# EAGLE library part ATXMEGA128A3U-AU (library SumBot)
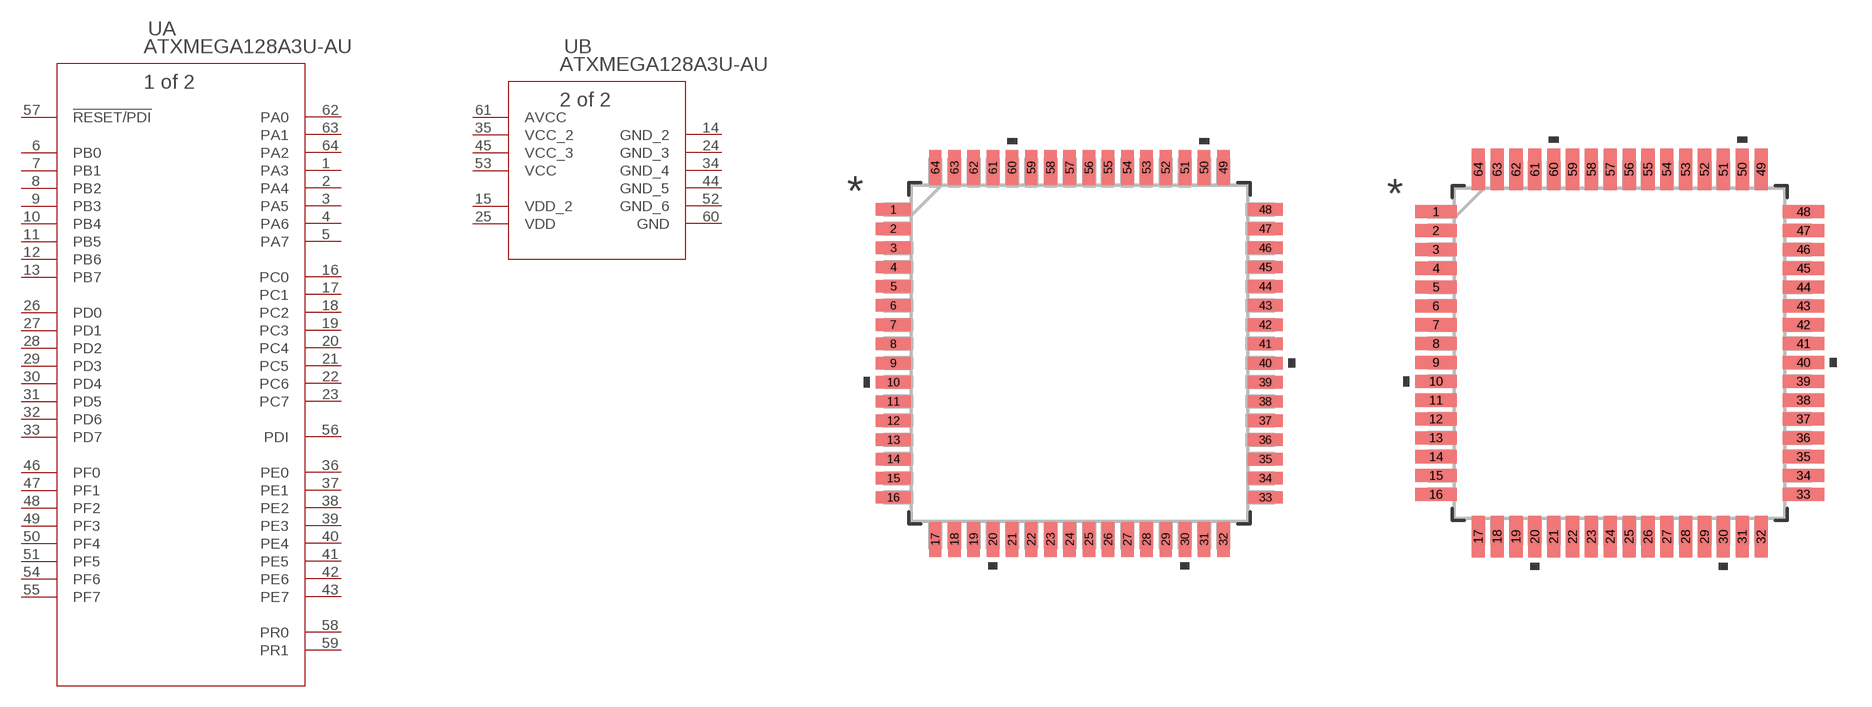
[diagram p0: symbol with the pads of 64A; footprints 64A, 64A-M]

Designator prefix U; gates A=ATXMEGA128A3U-AU B=ATXMEGA128A3U-AU_A

## ATXMEGA128A3U-AU (MANUFACTURER_PART_NUMBER: ATXMEGA128A3UAU; VENDOR: Atmel)  [64A]
1  A:PA3  pas
2  A:PA4  pas
3  A:PA5  pas
4  A:PA6  pas
5  A:PA7  pas
6  A:PB0  pas
7  A:PB1  pas
8  A:PB2  pas
9  A:PB3  pas
10  A:PB4  pas
11  A:PB5  pas
12  A:PB6  pas
13  A:PB7  pas
14  B:GND_2  pwr
15  B:VDD_2  pwr
16  A:PC0  pas
17  A:PC1  pas
18  A:PC2  pas
19  A:PC3  pas
20  A:PC4  pas
21  A:PC5  pas
22  A:PC6  pas
23  A:PC7  pas
24  B:GND_3  pwr
25  B:VDD  pwr
26  A:PD0  pas
27  A:PD1  pas
28  A:PD2  pas
29  A:PD3  pas
30  A:PD4  pas
31  A:PD5  pas
32  A:PD6  pas
33  A:PD7  pas
34  B:GND_4  pwr
35  B:VCC_2  pwr
36  A:PE0  pas
37  A:PE1  pas
38  A:PE2  pas
39  A:PE3  pas
40  A:PE4  pas
41  A:PE5  pas
42  A:PE6  pas
43  A:PE7  pas
44  B:GND_5  pwr
45  B:VCC_3  pwr
46  A:PF0  pas
47  A:PF1  pas
48  A:PF2  pas
49  A:PF3  pas
50  A:PF4  pas
51  A:PF5  pas
52  B:GND_6  pwr
53  B:VCC  pwr
54  A:PF6  pas
55  A:PF7  pas
56  A:PDI  pas
57  A:!RESET/PDI  pas
58  A:PR0  pas
59  A:PR1  pas
60  B:GND  pwr
61  B:AVCC  pwr
62  A:PA0  pas
63  A:PA1  pas
64  A:PA2  pas

## ATXMEGA128A3U-AU64A-M (MANUFACTURER_PART_NUMBER: ATXMEGA128A3UAU; VENDOR: Atmel)  [64A-M]
Pads as for 64A

## ATXMEGA128A3U-AU64A-L (MANUFACTURER_PART_NUMBER: ATXMEGA128A3UAU; VENDOR: Atmel)  [64A-L]
Pads as for 64A

## Footprint 64A (pad centres in mm)
smd 1.462 x 0.517: 1 -7.747,6; 2 -7.747,5.2; 3 -7.747,4.4; 4 -7.747,3.6; 5 -7.747,2.8; 6 -7.747,2; 7 -7.747,1.2; 8 -7.747,0.4; 9 -7.747,-0.4; 10 -7.747,-1.2; 11 -7.747,-2; 12 -7.747,-2.8; 13 -7.747,-3.6; 14 -7.747,-4.4; 15 -7.747,-5.2; 16 -7.747,-6; 33 7.747,-6; 34 7.747,-5.2; 35 7.747,-4.4; 36 7.747,-3.6; 37 7.747,-2.8; 38 7.747,-2; 39 7.747,-1.2; 40 7.747,-0.4; 41 7.747,0.4; 42 7.747,1.2; 43 7.747,2; 44 7.747,2.8; 45 7.747,3.6; 46 7.747,4.4; 47 7.747,5.2; 48 7.747,6
smd 0.517 x 1.462: 17 -6,-7.747; 18 -5.2,-7.747; 19 -4.4,-7.747; 20 -3.6,-7.747; 21 -2.8,-7.747; 22 -2,-7.747; 23 -1.2,-7.747; 24 -0.4,-7.747; 25 0.4,-7.747; 26 1.2,-7.747; 27 2,-7.747; 28 2.8,-7.747; 29 3.6,-7.747; 30 4.4,-7.747; 31 5.2,-7.747; 32 6,-7.747; 49 6,7.747; 50 5.2,7.747; 51 4.4,7.747; 52 3.6,7.747; 53 2.8,7.747; 54 2,7.747; 55 1.2,7.747; 56 0.4,7.747; 57 -0.4,7.747; 58 -1.2,7.747; 59 -2,7.747; 60 -2.8,7.747; 61 -3.6,7.747; 62 -4.4,7.747; 63 -5.2,7.747; 64 -6,7.747

## Footprint 64A-M (pad centres in mm)
smd 1.762 x 0.557: 1 -7.797,6; 2 -7.797,5.2; 3 -7.797,4.4; 4 -7.797,3.6; 5 -7.797,2.8; 6 -7.797,2; 7 -7.797,1.2; 8 -7.797,0.4; 9 -7.797,-0.4; 10 -7.797,-1.2; 11 -7.797,-2; 12 -7.797,-2.8; 13 -7.797,-3.6; 14 -7.797,-4.4; 15 -7.797,-5.2; 16 -7.797,-6; 33 7.797,-6; 34 7.797,-5.2; 35 7.797,-4.4; 36 7.797,-3.6; 37 7.797,-2.8; 38 7.797,-2; 39 7.797,-1.2; 40 7.797,-0.4; 41 7.797,0.4; 42 7.797,1.2; 43 7.797,2; 44 7.797,2.8; 45 7.797,3.6; 46 7.797,4.4; 47 7.797,5.2; 48 7.797,6
smd 0.557 x 1.762: 17 -6,-7.797; 18 -5.2,-7.797; 19 -4.4,-7.797; 20 -3.6,-7.797; 21 -2.8,-7.797; 22 -2,-7.797; 23 -1.2,-7.797; 24 -0.4,-7.797; 25 0.4,-7.797; 26 1.2,-7.797; 27 2,-7.797; 28 2.8,-7.797; 29 3.6,-7.797; 30 4.4,-7.797; 31 5.2,-7.797; 32 6,-7.797; 49 6,7.797; 50 5.2,7.797; 51 4.4,7.797; 52 3.6,7.797; 53 2.8,7.797; 54 2,7.797; 55 1.2,7.797; 56 0.4,7.797; 57 -0.4,7.797; 58 -1.2,7.797; 59 -2,7.797; 60 -2.8,7.797; 61 -3.6,7.797; 62 -4.4,7.797; 63 -5.2,7.797; 64 -6,7.797

## Footprint 64A-L (pad centres in mm)
smd 1.162 x 0.477: 1 -7.697,6; 2 -7.697,5.2; 3 -7.697,4.4; 4 -7.697,3.6; 5 -7.697,2.8; 6 -7.697,2; 7 -7.697,1.2; 8 -7.697,0.4; 9 -7.697,-0.4; 10 -7.697,-1.2; 11 -7.697,-2; 12 -7.697,-2.8; 13 -7.697,-3.6; 14 -7.697,-4.4; 15 -7.697,-5.2; 16 -7.697,-6; 33 7.697,-6; 34 7.697,-5.2; 35 7.697,-4.4; 36 7.697,-3.6; 37 7.697,-2.8; 38 7.697,-2; 39 7.697,-1.2; 40 7.697,-0.4; 41 7.697,0.4; 42 7.697,1.2; 43 7.697,2; 44 7.697,2.8; 45 7.697,3.6; 46 7.697,4.4; 47 7.697,5.2; 48 7.697,6
smd 0.477 x 1.162: 17 -6,-7.697; 18 -5.2,-7.697; 19 -4.4,-7.697; 20 -3.6,-7.697; 21 -2.8,-7.697; 22 -2,-7.697; 23 -1.2,-7.697; 24 -0.4,-7.697; 25 0.4,-7.697; 26 1.2,-7.697; 27 2,-7.697; 28 2.8,-7.697; 29 3.6,-7.697; 30 4.4,-7.697; 31 5.2,-7.697; 32 6,-7.697; 49 6,7.697; 50 5.2,7.697; 51 4.4,7.697; 52 3.6,7.697; 53 2.8,7.697; 54 2,7.697; 55 1.2,7.697; 56 0.4,7.697; 57 -0.4,7.697; 58 -1.2,7.697; 59 -2,7.697; 60 -2.8,7.697; 61 -3.6,7.697; 62 -4.4,7.697; 63 -5.2,7.697; 64 -6,7.697